# Altium footprint library PAY.PcbLib: 8 footprints
Each footprint in its own frame and in the unit in brackets; x right, y up, seen from the top. Pads: shape width x height; smd on the part's side, far side on the other; paste and mask are expansions set on the pad; w line width, h text height; cw(c..) or ccw(c..) is an arc to the next point about the centre after c.
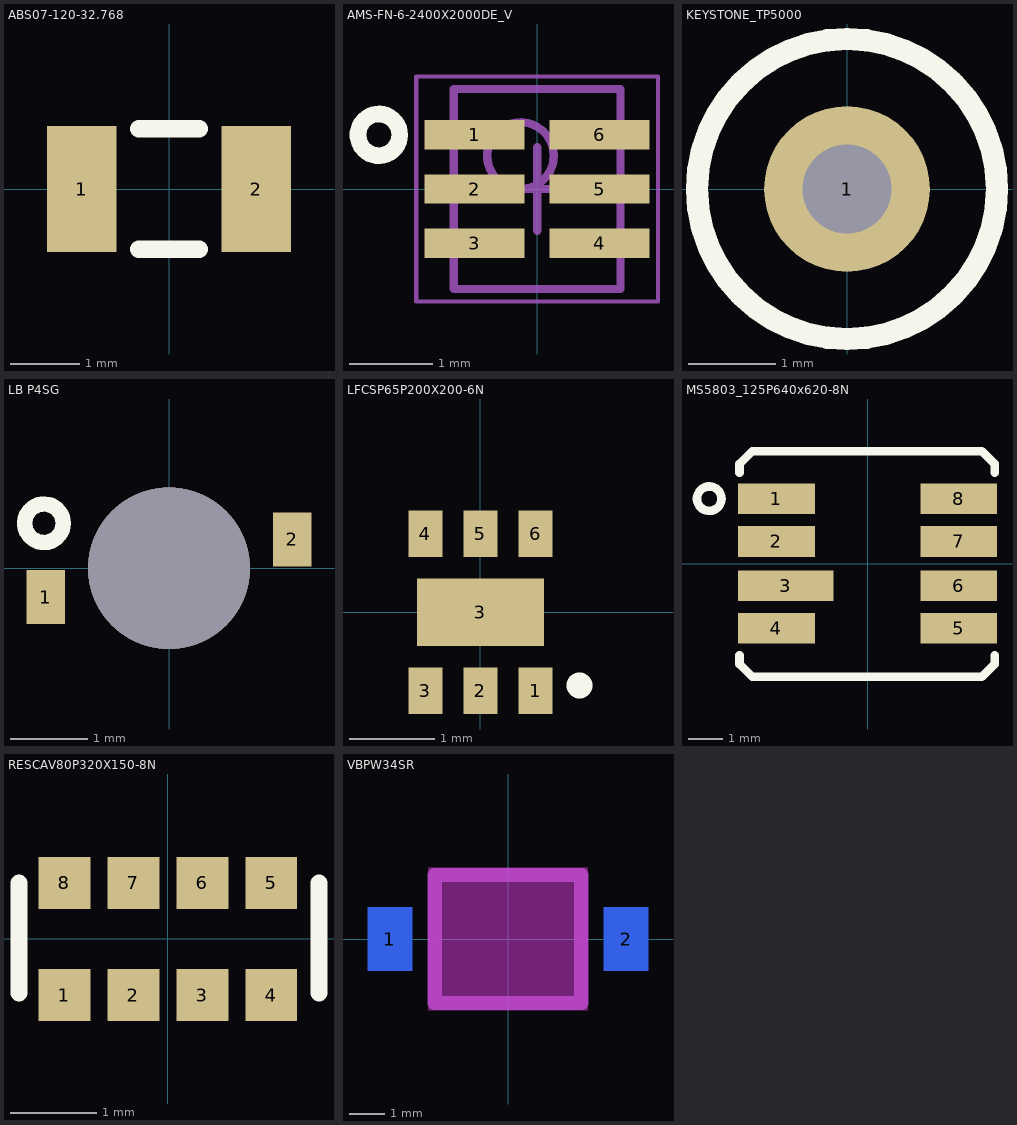
[diagram p0: the footprints below, top view; thin cyan lines are the x and y axes]

## ABS07-120-32.768 [mm] "32.768 kHz crystal"
pads (2):
  rect 1x1.8 smd: 1(-1.25,0) 2(1.25,0)
Top Overlay:
  lines w0.254: -0.432,-0.864 0.432,-0.864 ; -0.432,0.864 0.432,0.864
3D body "ABS07-120 v1.step": height 0.89, standoff 0, extent -1.603,-0.752 1.603,0.752

## AMS-FN-6-2400X2000DE_V [mm] "SON, 6-Leads, Body 2.4x2mm, Pitch 0.65mm"
height 0.7
pads (6):
  rect 1.2x0.35 smd mask+0.102: 1(-0.75,0.65) 2(-0.75,0) 3(-0.75,-0.65) 4(0.75,-0.65) 5(0.75,0) 6(0.75,0.65)
Top Overlay:
  circle w0.2: c-1.9,0.65 r0.25
Mechanical 13:
  circle w0.1: c-0.2,0.4 r0.4
  lines w0.1: -1,-1.2 1,-1.2 1,1.2 -1,1.2 -1,-1.2
Mechanical 15:
  lines w0.05: -1.45,-1.35 1.45,-1.35 1.45,1.35 -1.45,1.35 -1.45,-1.35
  lines w0.1: -0.5,0 0.5,0 ; 0,-0.5 0,0.5
3D body: height 0.7, standoff 0, extent -1,-1.2 1,1.2

## KEYSTONE_TP5000 [mm] "Oscilloscope Test Point Keystone 5000 series Red"
height 4.57
pads (1):
  round 1.9 hole 1.02: 1(0,0)
Top Overlay:
  circle w0.254: c0,0 r1.72
3D body: height 4.57, standoff 0, extent -1.739,-1.753 1.701,1.687

## LB P4SG [mm] "Footprint for a reverse-mount Osram LED"
pads (2):
  rect 0.5x0.7 smd mask+0.102: 1(-1.6,-0.375) 2(1.6,0.375)
via 0,0 diameter 2.1 hole 2.1
Top Overlay:
  circle w0.2: c-1.626,0.584 r0.25

## LFCSP65P200X200-6N [mm] "Footprint for ADPD2210 current amplifier"
height 0.55
pads (7):
  rect 0.4x0.55 smd: 1(0.65,-0.925) 2(0,-0.925) 3(-0.65,-0.925) 4(-0.65,0.925) 5(0,0.925) 6(0.65,0.925)
  rect 1.5x0.8 smd: 3(0,0)
Top Layer:
  pour cut-out: 1.575,2.337
Top Overlay:
  circle w0.254: c1.168,-0.864 r0.025

## MS5803_125P640x620-8N [mm] "Footprint for the MS5803 family of pressure sensors"
height 2.88
pads (8):
  rect 2.25x0.9 smd: 1(-2.675,1.9) 2(-2.675,0.65) 4(-2.675,-1.9) 5(2.675,-1.9) 6(2.675,-0.65) 7(2.675,0.65) 8(2.675,1.9)
  rect 2.8x0.9 smd: 3(-2.4,-0.65)
Top Overlay:
  circle w0.254: c-4.648,1.905 r0.359
  lines w0.254: -3.759,-2.692 -3.759,-2.946 -3.378,-3.327 3.353,-3.327 3.734,-2.946 3.734,-2.692 ; -3.759,2.667 -3.759,2.921 -3.378,3.302 3.353,3.302 3.734,2.921 3.734,2.667
3D body "MS580305BA01-00 v15.step": height 2.88, standoff 0, extent -3.175,-3.099 3.225,3.101

## RESCAV80P320X150-8N [mm] "Concave terminal quad pack resistor."
height 0.6
pads (8):
  rect 0.6x0.6 smd: 1(-1.2,-0.65) 2(-0.4,-0.65) 3(0.4,-0.65) 4(1.2,-0.65) 5(1.2,0.65) 6(0.4,0.65) 7(-0.4,0.65) 8(-1.2,0.65)
Top Overlay:
  lines w0.2: -1.727,-0.625 -1.727,0.65 ; 1.753,-0.625 1.753,0.65

## VBPW34SR [mm] "Silicon PIN photodiode for pay boards"
height 1.2
pads (2):
  rect 1.25x1.8 smd far side: 1(-3.325,0) 2(3.325,0)
Bottom Overlay:
  circle w0.254: c-2.845,1.321 r0.102
Keep-Out Layer:
  board cut-out: -2.25,2 2.25,2 2.25,-2 -2.25,-2
Mechanical 1:
  text "CUT OUT" at -1.626,-0.178 h0.5
Route Tool Path:
  lines w0.406: -2.057,-1.803 -2.057,1.803 2.057,1.803 2.057,-1.803 -2.057,-1.803